# Altium integrated library TI Power Management PCMCIA and USB.IntLib: 328 symbols (part 10 of 14)
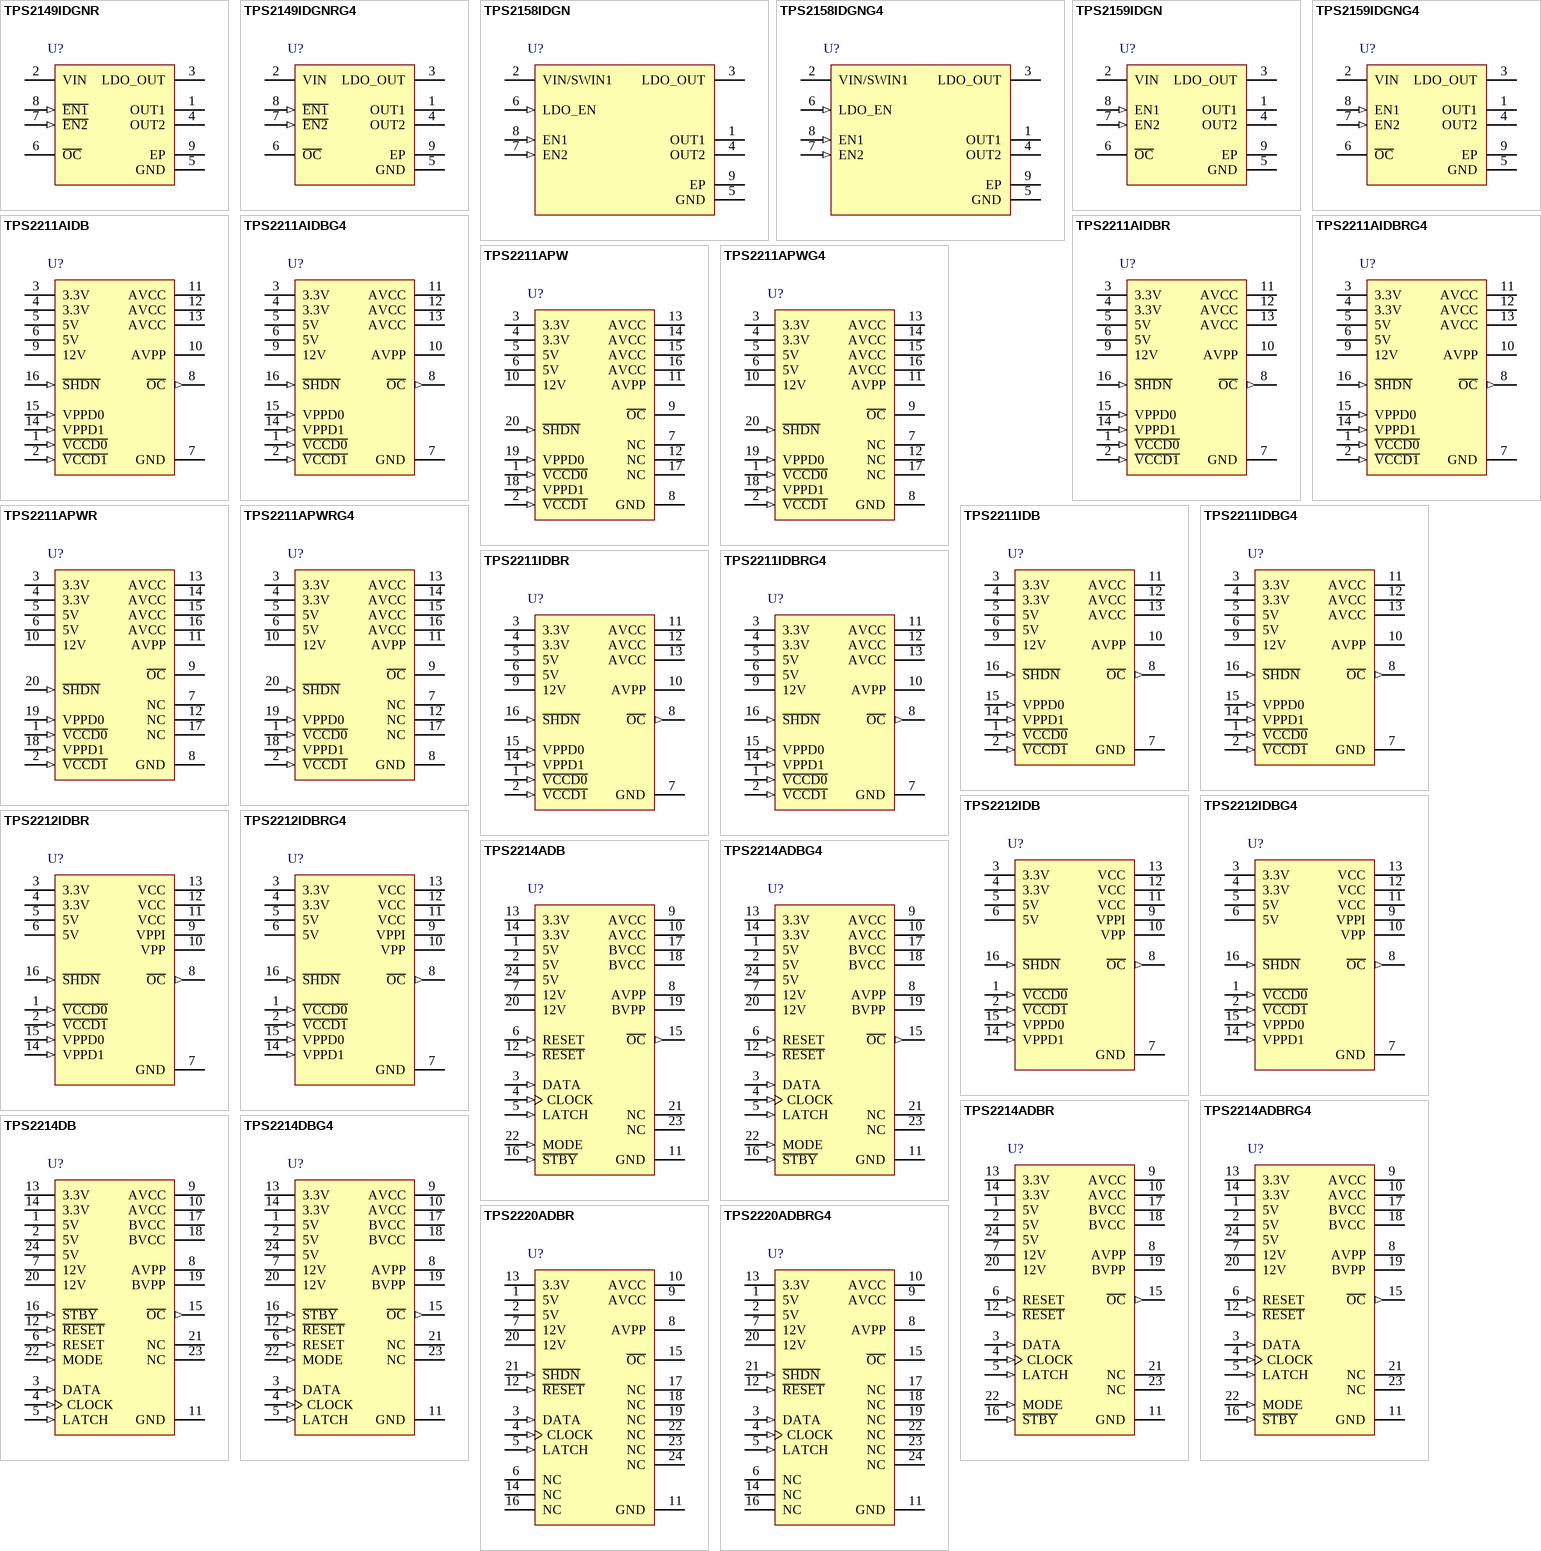
[diagram p19: symbols TPS2149IDGNR to TPS2220ADBRG4]

## TPS2211IDBRG4
designator U?
1 A Single-Slot PC Card Power Switch with Parallel Interface, -40 to 85 degC, 16-pin SSOP (DB), Green (RoHS & no Sb/Br); Manufacturer: Texas Instruments; PartNumber: TPS2211IDBRG4; 3V rDS(on)(Typ)(mOhm): 50; Adjustable Current Limit(Min)(A): 1; Curr/Temp Protection: TRUE; SubFamily: PCMCIA/Cardbus Switch Matrix; DatasheetVersion: SLVS156E; PackageVersion: revE, Dec-2001; PackageReference: DB16; PackageDescription: 16-Pin Plastic Small Outline Package, 6.2 x 5.3 mm Body, 0.65 mm Pitch; Supplier 1: Digi-Key; Supplier Part Number 1: TPS2211IDBRG4-ND; Supplier 2: Newark; Supplier Part Number 2: 63K6550; Supplier 3: Mouser; Supplier Part Number 3: 595-TPS2211IDBRG4; 5V rDS(on)(Typ)(mOhm): 50; Interface: Parallel; Over Current Reporting: TRUE; Ports: 1; Single: TRUE; Supports 12V: TRUE; Supports VPP: TRUE; Mounting Technology: Surface Mount; Code_JEDEC: MO-150; ComponentLink1Description: Datasheet; ComponentLink1URL: http://www.ti.com/general/docs/lit/getliterature.tsp?genericPartNumber=TPS2211&fileType=pdf
footprint DB16_N (SOP, 16-Leads, Body 6.2x5.3mm, Pitch 0.65mm, IPC Medium Density)
footprint DB16_L (SOP, 16-Leads, Body 6.2x5.3mm, Pitch 0.65mm, IPC High Density)
footprint DB16_M (SOP, 16-Leads, Body 6.2x5.3mm, Pitch 0.65mm, IPC Low Density)
pins: 1 ~{VCCD0} (in) "Logic input that controls voltage of AVCC", 2 ~{VCCD1} (in) "Logic input that controls voltage of AVCC", 3 3.3V (power) "3.3-V VCC input for card power and/or chip power if 5 V is not present", 4 3.3V (power) "3.3-V VCC input for card power and/or chip power if 5 V is not present", 5 5V (power) "5-V VCC input for card power and/or chip power", 6 5V (power) "5-V VCC input for card power and/or chip power", 7 GND (power) "Ground", 8 ~{OC} (out) "Logic-level overcurrent reporting output that goes low when an overcurrent conditions exists", 9 12V (power) "12-V Vpp input card power", 10 AVPP (power) "Switched output that delivers 0 V 3.3-V, 5-V, 12-V, or high impedance to card", 11 AVCC (power) "Switched output that delivers 0 V, 3.3-V, 5-V, or high impedance to card", 12 AVCC (power) "Switched output that delivers 0 V, 3.3-V, 5-V, or high impedance to card", 13 AVCC (power) "Switched output that delivers 0 V, 3.3-V, 5-V, or high impedance to card", 14 VPPD1 (in) "Logic input that controls voltage of AVPP", 15 VPPD0 (in) "Logic input that controls voltage of AVPP", 16 ~{SHDN} (in) "Logic input that shuts down the TPS2211 and sets all power outputs to high-impedance state"

## TPS2212IDB
designator U?
0.3 A Single-Slot PC Card Power Switch with Parallel Interface, -40 to 85 degC, 16-pin SSOP (DB), Green (RoHS & no Sb/Br); Manufacturer: Texas Instruments; PartNumber: TPS2212IDB; 3V rDS(on)(Typ)(mOhm): 160; Adjustable Current Limit(Min)(A): 0.3; Curr/Temp Protection: TRUE; Ports: 1; SubFamily: PCMCIA/Cardbus Switch Matrix; DatasheetVersion: SLVS193A; PackageVersion: revE, Dec-2001; PackageReference: DB16; PackageDescription: 16-Pin Plastic Small Outline Package, 6.2 x 5.3 mm Body, 0.65 mm Pitch; Supplier 1: Digi-Key; Supplier Part Number 1: 296-2247-5-ND; Supplier 2: Farnell; Supplier Part Number 2: 1755552; Supplier 3: Newark; Supplier Part Number 3: 50R6915; Supplier 4: Newark; Supplier Part Number 4: 96B9525; Supplier 5: Mouser; Supplier Part Number 5: 595-TPS2212IDB; 5V rDS(on)(Typ)(mOhm): 160; Interface: Parallel; Over Current Reporting: TRUE; Single: TRUE; Supports 12V: TRUE; Supports VPP: TRUE; Mounting Technology: Surface Mount; Code_JEDEC: MO-150; ComponentLink1Description: Datasheet; ComponentLink1URL: http://www.ti.com/general/docs/lit/getliterature.tsp?genericPartNumber=TPS2212&fileType=pdf
footprint DB16_N (SOP, 16-Leads, Body 6.2x5.3mm, Pitch 0.65mm, IPC Medium Density)
footprint DB16_L (SOP, 16-Leads, Body 6.2x5.3mm, Pitch 0.65mm, IPC High Density)
footprint DB16_M (SOP, 16-Leads, Body 6.2x5.3mm, Pitch 0.65mm, IPC Low Density)
pins: 1 ~{VCCD0} (in) "Logic input that controls voltage of VCC", 2 ~{VCCD1} (in) "Logic input that controls voltage of VCC", 3 3.3V (power) "3.3-V VCC input for card power and/or chip power if 5 V is not present", 4 3.3V (power) "3.3-V VCC input for card power and/or chip power if 5 V is not present", 5 5V (power) "5-V VCC input for card power and/or chip power", 6 5V (power) "5-V VCC input for card power and/or chip power", 7 GND (power) "Ground", 8 ~{OC} (out) "Logic-level overcurrent reporting output that goes low when an overcurrent conditions exists", 9 VPPI (power) "Main Vpp input, typically 12 V, allows 3.3 V-12 V", 10 VPP (power) "Switched output that delivers 0 V 3.3-V, 5-V, VPPI (12V), or high impedance to card", 11 VCC (power) "Switched output that delivers 0 V, 3.3-V, 5-V, or high impedance to card", 12 VCC (power) "Switched output that delivers 0 V, 3.3-V, 5-V, or high impedance to card", 13 VCC (power) "Switched output that delivers 0 V, 3.3-V, 5-V, or high impedance to card", 14 VPPD1 (in) "Logic input that controls voltage of VPP", 15 VPPD0 (in) "Logic input that controls voltage of VPP", 16 ~{SHDN} (in) "Logic input that shuts down the TPS2212 and sets all power outputs to high-impedance state"

## TPS2212IDBG4
designator U?
0.3 A Single-Slot PC Card Power Switch with Parallel Interface, -40 to 85 degC, 16-pin SSOP (DB), Green (RoHS & no Sb/Br); Manufacturer: Texas Instruments; PartNumber: TPS2212IDBG4; 3V rDS(on)(Typ)(mOhm): 160; Adjustable Current Limit(Min)(A): 0.3; Curr/Temp Protection: TRUE; Ports: 1; SubFamily: PCMCIA/Cardbus Switch Matrix; DatasheetVersion: SLVS193A; PackageVersion: revE, Dec-2001; PackageReference: DB16; PackageDescription: 16-Pin Plastic Small Outline Package, 6.2 x 5.3 mm Body, 0.65 mm Pitch; Supplier 1: Digi-Key; Supplier Part Number 1: TPS2212IDBG4-ND; Supplier 2: Newark; Supplier Part Number 2: 66K4507; Supplier 3: Mouser; Supplier Part Number 3: 595-TPS2212IDBG4; 5V rDS(on)(Typ)(mOhm): 160; Interface: Parallel; Over Current Reporting: TRUE; Single: TRUE; Supports 12V: TRUE; Supports VPP: TRUE; Mounting Technology: Surface Mount; Code_JEDEC: MO-150; ComponentLink1Description: Datasheet; ComponentLink1URL: http://www.ti.com/general/docs/lit/getliterature.tsp?genericPartNumber=TPS2212&fileType=pdf
footprint DB16_N (SOP, 16-Leads, Body 6.2x5.3mm, Pitch 0.65mm, IPC Medium Density)
footprint DB16_L (SOP, 16-Leads, Body 6.2x5.3mm, Pitch 0.65mm, IPC High Density)
footprint DB16_M (SOP, 16-Leads, Body 6.2x5.3mm, Pitch 0.65mm, IPC Low Density)
pins: 1 ~{VCCD0} (in) "Logic input that controls voltage of VCC", 2 ~{VCCD1} (in) "Logic input that controls voltage of VCC", 3 3.3V (power) "3.3-V VCC input for card power and/or chip power if 5 V is not present", 4 3.3V (power) "3.3-V VCC input for card power and/or chip power if 5 V is not present", 5 5V (power) "5-V VCC input for card power and/or chip power", 6 5V (power) "5-V VCC input for card power and/or chip power", 7 GND (power) "Ground", 8 ~{OC} (out) "Logic-level overcurrent reporting output that goes low when an overcurrent conditions exists", 9 VPPI (power) "Main Vpp input, typically 12 V, allows 3.3 V-12 V", 10 VPP (power) "Switched output that delivers 0 V 3.3-V, 5-V, VPPI (12V), or high impedance to card", 11 VCC (power) "Switched output that delivers 0 V, 3.3-V, 5-V, or high impedance to card", 12 VCC (power) "Switched output that delivers 0 V, 3.3-V, 5-V, or high impedance to card", 13 VCC (power) "Switched output that delivers 0 V, 3.3-V, 5-V, or high impedance to card", 14 VPPD1 (in) "Logic input that controls voltage of VPP", 15 VPPD0 (in) "Logic input that controls voltage of VPP", 16 ~{SHDN} (in) "Logic input that shuts down the TPS2212 and sets all power outputs to high-impedance state"

## TPS2212IDBR
designator U?
0.3 A Single-Slot PC Card Power Switch with Parallel Interface, -40 to 85 degC, 16-pin SSOP (DB), Green (RoHS & no Sb/Br); Manufacturer: Texas Instruments; PartNumber: TPS2212IDBR; 3V rDS(on)(Typ)(mOhm): 160; Adjustable Current Limit(Min)(A): 0.3; Curr/Temp Protection: TRUE; Ports: 1; SubFamily: PCMCIA/Cardbus Switch Matrix; DatasheetVersion: SLVS193A; PackageVersion: revE, Dec-2001; PackageReference: DB16; PackageDescription: 16-Pin Plastic Small Outline Package, 6.2 x 5.3 mm Body, 0.65 mm Pitch; Supplier 1: Digi-Key; Supplier Part Number 1: TPS2212IDBR-ND; Supplier 2: Newark; Supplier Part Number 2: 77C0129; Supplier 3: Mouser; Supplier Part Number 3: 595-TPS2212IDBR; 5V rDS(on)(Typ)(mOhm): 160; Interface: Parallel; Over Current Reporting: TRUE; Single: TRUE; Supports 12V: TRUE; Supports VPP: TRUE; Mounting Technology: Surface Mount; Code_JEDEC: MO-150; ComponentLink1Description: Datasheet; ComponentLink1URL: http://www.ti.com/general/docs/lit/getliterature.tsp?genericPartNumber=TPS2212&fileType=pdf
footprint DB16_N (SOP, 16-Leads, Body 6.2x5.3mm, Pitch 0.65mm, IPC Medium Density)
footprint DB16_L (SOP, 16-Leads, Body 6.2x5.3mm, Pitch 0.65mm, IPC High Density)
footprint DB16_M (SOP, 16-Leads, Body 6.2x5.3mm, Pitch 0.65mm, IPC Low Density)
pins: 1 ~{VCCD0} (in) "Logic input that controls voltage of VCC", 2 ~{VCCD1} (in) "Logic input that controls voltage of VCC", 3 3.3V (power) "3.3-V VCC input for card power and/or chip power if 5 V is not present", 4 3.3V (power) "3.3-V VCC input for card power and/or chip power if 5 V is not present", 5 5V (power) "5-V VCC input for card power and/or chip power", 6 5V (power) "5-V VCC input for card power and/or chip power", 7 GND (power) "Ground", 8 ~{OC} (out) "Logic-level overcurrent reporting output that goes low when an overcurrent conditions exists", 9 VPPI (power) "Main Vpp input, typically 12 V, allows 3.3 V-12 V", 10 VPP (power) "Switched output that delivers 0 V 3.3-V, 5-V, VPPI (12V), or high impedance to card", 11 VCC (power) "Switched output that delivers 0 V, 3.3-V, 5-V, or high impedance to card", 12 VCC (power) "Switched output that delivers 0 V, 3.3-V, 5-V, or high impedance to card", 13 VCC (power) "Switched output that delivers 0 V, 3.3-V, 5-V, or high impedance to card", 14 VPPD1 (in) "Logic input that controls voltage of VPP", 15 VPPD0 (in) "Logic input that controls voltage of VPP", 16 ~{SHDN} (in) "Logic input that shuts down the TPS2212 and sets all power outputs to high-impedance state"

## TPS2212IDBRG4
designator U?
0.3 A Single-Slot PC Card Power Switch with Parallel Interface, -40 to 85 degC, 16-pin SSOP (DB), Green (RoHS & no Sb/Br); Manufacturer: Texas Instruments; PartNumber: TPS2212IDBRG4; 3V rDS(on)(Typ)(mOhm): 160; Adjustable Current Limit(Min)(A): 0.3; Curr/Temp Protection: TRUE; Ports: 1; SubFamily: PCMCIA/Cardbus Switch Matrix; DatasheetVersion: SLVS193A; PackageVersion: revE, Dec-2001; PackageReference: DB16; PackageDescription: 16-Pin Plastic Small Outline Package, 6.2 x 5.3 mm Body, 0.65 mm Pitch; Supplier 1: Digi-Key; Supplier Part Number 1: TPS2212IDBRG4-ND; Supplier 2: Newark; Supplier Part Number 2: 67K8625; Supplier 3: Mouser; Supplier Part Number 3: 595-TPS2212IDBRG4; 5V rDS(on)(Typ)(mOhm): 160; Interface: Parallel; Over Current Reporting: TRUE; Single: TRUE; Supports 12V: TRUE; Supports VPP: TRUE; Mounting Technology: Surface Mount; Code_JEDEC: MO-150; ComponentLink1Description: Datasheet; ComponentLink1URL: http://www.ti.com/general/docs/lit/getliterature.tsp?genericPartNumber=TPS2212&fileType=pdf
footprint DB16_N (SOP, 16-Leads, Body 6.2x5.3mm, Pitch 0.65mm, IPC Medium Density)
footprint DB16_L (SOP, 16-Leads, Body 6.2x5.3mm, Pitch 0.65mm, IPC High Density)
footprint DB16_M (SOP, 16-Leads, Body 6.2x5.3mm, Pitch 0.65mm, IPC Low Density)
pins: 1 ~{VCCD0} (in) "Logic input that controls voltage of VCC", 2 ~{VCCD1} (in) "Logic input that controls voltage of VCC", 3 3.3V (power) "3.3-V VCC input for card power and/or chip power if 5 V is not present", 4 3.3V (power) "3.3-V VCC input for card power and/or chip power if 5 V is not present", 5 5V (power) "5-V VCC input for card power and/or chip power", 6 5V (power) "5-V VCC input for card power and/or chip power", 7 GND (power) "Ground", 8 ~{OC} (out) "Logic-level overcurrent reporting output that goes low when an overcurrent conditions exists", 9 VPPI (power) "Main Vpp input, typically 12 V, allows 3.3 V-12 V", 10 VPP (power) "Switched output that delivers 0 V 3.3-V, 5-V, VPPI (12V), or high impedance to card", 11 VCC (power) "Switched output that delivers 0 V, 3.3-V, 5-V, or high impedance to card", 12 VCC (power) "Switched output that delivers 0 V, 3.3-V, 5-V, or high impedance to card", 13 VCC (power) "Switched output that delivers 0 V, 3.3-V, 5-V, or high impedance to card", 14 VPPD1 (in) "Logic input that controls voltage of VPP", 15 VPPD0 (in) "Logic input that controls voltage of VPP", 16 ~{SHDN} (in) "Logic input that shuts down the TPS2212 and sets all power outputs to high-impedance state"

## TPS2214ADB
designator U?
1 A Dual-Slot PC Card Power Switch with Serial Interface, -40 to 70 degC, 24-pin SSOP (DB), Green (RoHS & no Sb/Br); Manufacturer: Texas Instruments; PartNumber: TPS2214ADB; 3V rDS(on)(Typ)(mOhm): 60; 5V rDS(on)(Typ)(mOhm): 140; Adjustable Current Limit(Min)(A): 1; Curr/Temp Protection: TRUE; Ports: 2; SubFamily: PCMCIA/Cardbus Switch Matrix; DatasheetVersion: SLVS267C; PackageVersion: revE, Dec-2001; PackageReference: DB24; PackageDescription: 24-Pin Plastic Small Outline Package, 8.2 x 5.3 mm Body, 0.65 mm Pitch; Supplier 1: Digi-Key; Supplier Part Number 1: 296-2248-5-ND; Supplier 2: Newark; Supplier Part Number 2: 77C0130; Supplier 3: Mouser; Supplier Part Number 3: 595-TPS2214ADB; Dual: TRUE; Interface: Serial; Over Current Reporting: TRUE; Supports 12V: TRUE; Supports VPP: TRUE; Mounting Technology: Surface Mount; Code_JEDEC: MO-150; ComponentLink1Description: Datasheet; ComponentLink1URL: http://www.ti.com/general/docs/lit/getliterature.tsp?genericPartNumber=TPS2214A&fileType=pdf
footprint DB24_N (SOP, 24-Leads, Body 8.2x5.3mm, Pitch 0.65mm, IPC Medium Density)
footprint DB24_L (SOP, 24-Leads, Body 8.2x5.3mm, Pitch 0.65mm, IPC High Density)
footprint DB24_M (SOP, 24-Leads, Body 8.2x5.3mm, Pitch 0.65mm, IPC Low Density)
pins: 1 5V (power) "5-V input for card power and/or chip power", 2 5V (power) "5-V input for card power and/or chip power", 3 DATA (in) "Logic-level serial data word", 4 CLOCK (in) "Logic-level clock for serial data word", 5 LATCH (in) "Logic-level latch for serial data word", 6 RESET (in) "Logic-level reset input active high. Do not connect if R\E\S\E\T\ pin is used. RESET is internally pulled low with a 150-k ohm pulldown resistor", 7 12V (power) "12-V Vpp input card power", 8 AVPP (power) "VPP output: 3.3-V, 5-V, 12-V, GND or high impedance to card", 9 AVCC (power) "VCC output: 3.3-V, 5-V, GND or high impedance to card", 10 AVCC (power) "VCC output: 3.3-V, 5-V, GND or high impedance to card", 11 GND (power) "Ground", 12 ~{RESET} (in) "Logic-level reset input active low. Do not connect if RESET pin is used. The pin is internally pulled high with a 150-k ohm pullup resistor", 13 3.3V (power) "3.3-V input for card power and/or chip power if 5 V is not present", 14 3.3V (power) "3.3-V input for card power and/or chip power if 5 V is not present", 15 ~{OC} (out) "Logic-level output that goes low when an overcurrent or overtemperature condition exists", 16 ~{STBY} (in) "Logic-level active low input sets the TPS2216 to standby mode and sets all current limits to 50 mA. The pin is internally pulled high with a 150-k ohm pullup resistor", 17 BVCC (power) "VCC output: 3.3-V, 5-V, GND or high impedance to card", 18 BVCC (power) "VCC output: 3.3-V, 5-V, GND or high impedance to card", 19 BVPP (power) "VPP output: 3.3-V, 5-V, 12-V, GND or high impedance to card", 20 12V (power) "12-V Vpp input card power", 21 NC "No internal connection", 22 MODE (in) "TPS2206 operation when floating or pulled low; must be pulled high externally for TPS2216A operation. MODE is internally pulled low with a 150-k ohm pulldown resistor", 23 NC "No internal connection", 24 5V (power) "5-V input for card power and/or chip power"

## TPS2214ADBG4
designator U?
1 A Dual-Slot PC Card Power Switch with Serial Interface, -40 to 70 degC, 24-pin SSOP (DB), Green (RoHS & no Sb/Br); Manufacturer: Texas Instruments; PartNumber: TPS2214ADBG4; 3V rDS(on)(Typ)(mOhm): 60; 5V rDS(on)(Typ)(mOhm): 140; Adjustable Current Limit(Min)(A): 1; Curr/Temp Protection: TRUE; Ports: 2; SubFamily: PCMCIA/Cardbus Switch Matrix; DatasheetVersion: SLVS267C; PackageVersion: revE, Dec-2001; PackageReference: DB24; PackageDescription: 24-Pin Plastic Small Outline Package, 8.2 x 5.3 mm Body, 0.65 mm Pitch; Supplier 1: Digi-Key; Supplier Part Number 1: TPS2214ADBG4-ND; Supplier 2: Newark; Supplier Part Number 2: 66K4508; Supplier 3: Mouser; Supplier Part Number 3: 595-TPS2214ADBG4; Dual: TRUE; Interface: Serial; Over Current Reporting: TRUE; Supports 12V: TRUE; Supports VPP: TRUE; Mounting Technology: Surface Mount; Code_JEDEC: MO-150; ComponentLink1Description: Datasheet; ComponentLink1URL: http://www.ti.com/general/docs/lit/getliterature.tsp?genericPartNumber=TPS2214A&fileType=pdf
footprint DB24_N (SOP, 24-Leads, Body 8.2x5.3mm, Pitch 0.65mm, IPC Medium Density)
footprint DB24_L (SOP, 24-Leads, Body 8.2x5.3mm, Pitch 0.65mm, IPC High Density)
footprint DB24_M (SOP, 24-Leads, Body 8.2x5.3mm, Pitch 0.65mm, IPC Low Density)
pins: 1 5V (power) "5-V input for card power and/or chip power", 2 5V (power) "5-V input for card power and/or chip power", 3 DATA (in) "Logic-level serial data word", 4 CLOCK (in) "Logic-level clock for serial data word", 5 LATCH (in) "Logic-level latch for serial data word", 6 RESET (in) "Logic-level reset input active high. Do not connect if R\E\S\E\T\ pin is used. RESET is internally pulled low with a 150-k ohm pulldown resistor", 7 12V (power) "12-V Vpp input card power", 8 AVPP (power) "VPP output: 3.3-V, 5-V, 12-V, GND or high impedance to card", 9 AVCC (power) "VCC output: 3.3-V, 5-V, GND or high impedance to card", 10 AVCC (power) "VCC output: 3.3-V, 5-V, GND or high impedance to card", 11 GND (power) "Ground", 12 ~{RESET} (in) "Logic-level reset input active low. Do not connect if RESET pin is used. The pin is internally pulled high with a 150-k ohm pullup resistor", 13 3.3V (power) "3.3-V input for card power and/or chip power if 5 V is not present", 14 3.3V (power) "3.3-V input for card power and/or chip power if 5 V is not present", 15 ~{OC} (out) "Logic-level output that goes low when an overcurrent or overtemperature condition exists", 16 ~{STBY} (in) "Logic-level active low input sets the TPS2216 to standby mode and sets all current limits to 50 mA. The pin is internally pulled high with a 150-k ohm pullup resistor", 17 BVCC (power) "VCC output: 3.3-V, 5-V, GND or high impedance to card", 18 BVCC (power) "VCC output: 3.3-V, 5-V, GND or high impedance to card", 19 BVPP (power) "VPP output: 3.3-V, 5-V, 12-V, GND or high impedance to card", 20 12V (power) "12-V Vpp input card power", 21 NC "No internal connection", 22 MODE (in) "TPS2206 operation when floating or pulled low; must be pulled high externally for TPS2216A operation. MODE is internally pulled low with a 150-k ohm pulldown resistor", 23 NC "No internal connection", 24 5V (power) "5-V input for card power and/or chip power"

## TPS2214ADBR
designator U?
1 A Dual-Slot PC Card Power Switch with Serial Interface, -40 to 70 degC, 24-pin SSOP (DB), Green (RoHS & no Sb/Br); Manufacturer: Texas Instruments; PartNumber: TPS2214ADBR; 3V rDS(on)(Typ)(mOhm): 60; 5V rDS(on)(Typ)(mOhm): 140; Adjustable Current Limit(Min)(A): 1; Curr/Temp Protection: TRUE; Ports: 2; SubFamily: PCMCIA/Cardbus Switch Matrix; DatasheetVersion: SLVS267C; PackageVersion: revE, Dec-2001; PackageReference: DB24; PackageDescription: 24-Pin Plastic Small Outline Package, 8.2 x 5.3 mm Body, 0.65 mm Pitch; Supplier 1: Digi-Key; Supplier Part Number 1: TPS2214ADBR-ND; Supplier 2: Newark; Supplier Part Number 2: 77C0131; Supplier 3: Mouser; Supplier Part Number 3: 595-TPS2214ADBR; Dual: TRUE; Interface: Serial; Over Current Reporting: TRUE; Supports 12V: TRUE; Supports VPP: TRUE; Mounting Technology: Surface Mount; Code_JEDEC: MO-150; ComponentLink1Description: Datasheet; ComponentLink1URL: http://www.ti.com/general/docs/lit/getliterature.tsp?genericPartNumber=TPS2214A&fileType=pdf
footprint DB24_N (SOP, 24-Leads, Body 8.2x5.3mm, Pitch 0.65mm, IPC Medium Density)
footprint DB24_L (SOP, 24-Leads, Body 8.2x5.3mm, Pitch 0.65mm, IPC High Density)
footprint DB24_M (SOP, 24-Leads, Body 8.2x5.3mm, Pitch 0.65mm, IPC Low Density)
pins: 1 5V (power) "5-V input for card power and/or chip power", 2 5V (power) "5-V input for card power and/or chip power", 3 DATA (in) "Logic-level serial data word", 4 CLOCK (in) "Logic-level clock for serial data word", 5 LATCH (in) "Logic-level latch for serial data word", 6 RESET (in) "Logic-level reset input active high. Do not connect if R\E\S\E\T\ pin is used. RESET is internally pulled low with a 150-k ohm pulldown resistor", 7 12V (power) "12-V Vpp input card power", 8 AVPP (power) "VPP output: 3.3-V, 5-V, 12-V, GND or high impedance to card", 9 AVCC (power) "VCC output: 3.3-V, 5-V, GND or high impedance to card", 10 AVCC (power) "VCC output: 3.3-V, 5-V, GND or high impedance to card", 11 GND (power) "Ground", 12 ~{RESET} (in) "Logic-level reset input active low. Do not connect if RESET pin is used. The pin is internally pulled high with a 150-k ohm pullup resistor", 13 3.3V (power) "3.3-V input for card power and/or chip power if 5 V is not present", 14 3.3V (power) "3.3-V input for card power and/or chip power if 5 V is not present", 15 ~{OC} (out) "Logic-level output that goes low when an overcurrent or overtemperature condition exists", 16 ~{STBY} (in) "Logic-level active low input sets the TPS2216 to standby mode and sets all current limits to 50 mA. The pin is internally pulled high with a 150-k ohm pullup resistor", 17 BVCC (power) "VCC output: 3.3-V, 5-V, GND or high impedance to card", 18 BVCC (power) "VCC output: 3.3-V, 5-V, GND or high impedance to card", 19 BVPP (power) "VPP output: 3.3-V, 5-V, 12-V, GND or high impedance to card", 20 12V (power) "12-V Vpp input card power", 21 NC "No internal connection", 22 MODE (in) "TPS2206 operation when floating or pulled low; must be pulled high externally for TPS2216A operation. MODE is internally pulled low with a 150-k ohm pulldown resistor", 23 NC "No internal connection", 24 5V (power) "5-V input for card power and/or chip power"

## TPS2214ADBRG4
designator U?
1 A Dual-Slot PC Card Power Switch with Serial Interface, -40 to 70 degC, 24-pin SSOP (DB), Green (RoHS & no Sb/Br); Manufacturer: Texas Instruments; PartNumber: TPS2214ADBRG4; 3V rDS(on)(Typ)(mOhm): 60; 5V rDS(on)(Typ)(mOhm): 140; Adjustable Current Limit(Min)(A): 1; Curr/Temp Protection: TRUE; Ports: 2; SubFamily: PCMCIA/Cardbus Switch Matrix; DatasheetVersion: SLVS267C; PackageVersion: revE, Dec-2001; PackageReference: DB24; PackageDescription: 24-Pin Plastic Small Outline Package, 8.2 x 5.3 mm Body, 0.65 mm Pitch; Supplier 1: Digi-Key; Supplier Part Number 1: TPS2214ADBRG4-ND; Supplier 2: Newark; Supplier Part Number 2: 58K6899; Supplier 3: Mouser; Supplier Part Number 3: 595-TPS2214ADBRG4; Dual: TRUE; Interface: Serial; Over Current Reporting: TRUE; Supports 12V: TRUE; Supports VPP: TRUE; Mounting Technology: Surface Mount; Code_JEDEC: MO-150; ComponentLink1Description: Datasheet; ComponentLink1URL: http://www.ti.com/general/docs/lit/getliterature.tsp?genericPartNumber=TPS2214A&fileType=pdf
footprint DB24_N (SOP, 24-Leads, Body 8.2x5.3mm, Pitch 0.65mm, IPC Medium Density)
footprint DB24_L (SOP, 24-Leads, Body 8.2x5.3mm, Pitch 0.65mm, IPC High Density)
footprint DB24_M (SOP, 24-Leads, Body 8.2x5.3mm, Pitch 0.65mm, IPC Low Density)
pins: 1 5V (power) "5-V input for card power and/or chip power", 2 5V (power) "5-V input for card power and/or chip power", 3 DATA (in) "Logic-level serial data word", 4 CLOCK (in) "Logic-level clock for serial data word", 5 LATCH (in) "Logic-level latch for serial data word", 6 RESET (in) "Logic-level reset input active high. Do not connect if R\E\S\E\T\ pin is used. RESET is internally pulled low with a 150-k ohm pulldown resistor", 7 12V (power) "12-V Vpp input card power", 8 AVPP (power) "VPP output: 3.3-V, 5-V, 12-V, GND or high impedance to card", 9 AVCC (power) "VCC output: 3.3-V, 5-V, GND or high impedance to card", 10 AVCC (power) "VCC output: 3.3-V, 5-V, GND or high impedance to card", 11 GND (power) "Ground", 12 ~{RESET} (in) "Logic-level reset input active low. Do not connect if RESET pin is used. The pin is internally pulled high with a 150-k ohm pullup resistor", 13 3.3V (power) "3.3-V input for card power and/or chip power if 5 V is not present", 14 3.3V (power) "3.3-V input for card power and/or chip power if 5 V is not present", 15 ~{OC} (out) "Logic-level output that goes low when an overcurrent or overtemperature condition exists", 16 ~{STBY} (in) "Logic-level active low input sets the TPS2216 to standby mode and sets all current limits to 50 mA. The pin is internally pulled high with a 150-k ohm pullup resistor", 17 BVCC (power) "VCC output: 3.3-V, 5-V, GND or high impedance to card", 18 BVCC (power) "VCC output: 3.3-V, 5-V, GND or high impedance to card", 19 BVPP (power) "VPP output: 3.3-V, 5-V, 12-V, GND or high impedance to card", 20 12V (power) "12-V Vpp input card power", 21 NC "No internal connection", 22 MODE (in) "TPS2206 operation when floating or pulled low; must be pulled high externally for TPS2216A operation. MODE is internally pulled low with a 150-k ohm pulldown resistor", 23 NC "No internal connection", 24 5V (power) "5-V input for card power and/or chip power"

## TPS2214DB
designator U?
1 A Dual-Slot PC Card Power Switch with Serial Interface, -40 to 85 degC, 24-pin SSOP (DB), Green (RoHS & no Sb/Br); Manufacturer: Texas Instruments; PartNumber: TPS2214DB; 3V rDS(on)(Typ)(mOhm): 60; Adjustable Current Limit(Min)(A): 1; Curr/Temp Protection: TRUE; Ports: 2; SubFamily: PCMCIA/Cardbus Switch Matrix; DatasheetVersion: SLVS206B; PackageVersion: revE, Dec-2001; PackageReference: DB24; PackageDescription: 24-Pin Plastic Small Outline Package, 8.2 x 5.3 mm Body, 0.65 mm Pitch; Supplier 1: Digi-Key; Supplier Part Number 1: 296-2249-5-ND; Supplier 2: Newark; Supplier Part Number 2: 77C0132; Supplier 3: Mouser; Supplier Part Number 3: 595-TPS2214DB; 5V rDS(on)(Typ)(mOhm): 60; Dual: TRUE; Interface: Serial; Over Current Reporting: TRUE; Supports 12V: TRUE; Supports VPP: TRUE; Mounting Technology: Surface Mount; Code_JEDEC: MO-150; ComponentLink1Description: Datasheet; ComponentLink1URL: http://www.ti.com/general/docs/lit/getliterature.tsp?genericPartNumber=TPS2214&fileType=pdf
footprint DB24_N (SOP, 24-Leads, Body 8.2x5.3mm, Pitch 0.65mm, IPC Medium Density)
footprint DB24_L (SOP, 24-Leads, Body 8.2x5.3mm, Pitch 0.65mm, IPC High Density)
footprint DB24_M (SOP, 24-Leads, Body 8.2x5.3mm, Pitch 0.65mm, IPC Low Density)
pins: 1 5V (power) "5-V input for card power and/or chip power", 2 5V (power) "5-V input for card power and/or chip power", 3 DATA (in) "Logic-level serial data word", 4 CLOCK (in) "Logic-level clock for serial data word", 5 LATCH (in) "Logic-level latch for serial data word", 6 RESET (in) "Logic-level reset input active high. Do not connect if RESET pin is used. RESET is internally pulled low with a 150-k ohm pulldown resistor.", 7 12V (power) "12-V Vpp input card power", 8 AVPP (power) "VPP output: 3.3-V, 5-V, 12-V, GND or high impedance to card", 9 AVCC (power) "VCC output: 3.3-V, 5-V, GND or high impedance to card", 10 AVCC (power) "VCC output: 3.3-V, 5-V, GND or high impedance to card", 11 GND (power) "Ground", 12 ~{RESET} (in) "Logic-level reset input active low. Do not connect if RESET pin is used. The pin is internally pulled high with a 150-k ohm pullup resistor.", 13 3.3V (power) "3.3-V input for card power and/or chip power if 5 V is not present", 14 3.3V (power) "3.3-V input for card power and/or chip power if 5 V is not present", 15 ~{OC} (out) "Logic-level output that goes low when an overcurrent or overtemperature condition exists.", 16 ~{STBY} (in) "Logic-level active low input sets the TPS2214 to standby mode and sets all current limits to 50 mA. The pin is internally pulled high with a 150-k ohm pullup resistor.", 17 BVCC (power) "VCC output: 3.3-V, 5-V, GND or high impedance to card", 18 BVCC (power) "VCC output: 3.3-V, 5-V, GND or high impedance to card", 19 BVPP (power) "VPP output: 3.3-V, 5-V, 12-V, GND or high impedance to card", 20 12V (power) "12-V Vpp input card power", 21 NC "No internal connection", 22 MODE (in) "TPS2206 operation when floating or pulled low; must be pulled high externally for TPS2214 operation. MODE is internally pulled low with a 150-k ohm pulldown resistor.", 23 NC "No internal connection", 24 5V (power) "5-V input for card power and/or chip power"

## TPS2214DBG4
designator U?
1 A Dual-Slot PC Card Power Switch with Serial Interface, -40 to 85 degC, 24-pin SSOP (DB), Green (RoHS & no Sb/Br); Manufacturer: Texas Instruments; PartNumber: TPS2214DBG4; 3V rDS(on)(Typ)(mOhm): 60; Adjustable Current Limit(Min)(A): 1; Curr/Temp Protection: TRUE; Ports: 2; SubFamily: PCMCIA/Cardbus Switch Matrix; DatasheetVersion: SLVS206B; PackageVersion: revE, Dec-2001; PackageReference: DB24; PackageDescription: 24-Pin Plastic Small Outline Package, 8.2 x 5.3 mm Body, 0.65 mm Pitch; Supplier 1: Digi-Key; Supplier Part Number 1: TPS2214DBG4-ND; Supplier 2: Newark; Supplier Part Number 2: 54K1574; Supplier 3: Mouser; Supplier Part Number 3: 595-TPS2214DBG4; 5V rDS(on)(Typ)(mOhm): 60; Dual: TRUE; Interface: Serial; Over Current Reporting: TRUE; Supports 12V: TRUE; Supports VPP: TRUE; Mounting Technology: Surface Mount; Code_JEDEC: MO-150; ComponentLink1Description: Datasheet; ComponentLink1URL: http://www.ti.com/general/docs/lit/getliterature.tsp?genericPartNumber=TPS2214&fileType=pdf
footprint DB24_N (SOP, 24-Leads, Body 8.2x5.3mm, Pitch 0.65mm, IPC Medium Density)
footprint DB24_L (SOP, 24-Leads, Body 8.2x5.3mm, Pitch 0.65mm, IPC High Density)
footprint DB24_M (SOP, 24-Leads, Body 8.2x5.3mm, Pitch 0.65mm, IPC Low Density)
pins: 1 5V (power) "5-V input for card power and/or chip power", 2 5V (power) "5-V input for card power and/or chip power", 3 DATA (in) "Logic-level serial data word", 4 CLOCK (in) "Logic-level clock for serial data word", 5 LATCH (in) "Logic-level latch for serial data word", 6 RESET (in) "Logic-level reset input active high. Do not connect if RESET pin is used. RESET is internally pulled low with a 150-k ohm pulldown resistor.", 7 12V (power) "12-V Vpp input card power", 8 AVPP (power) "VPP output: 3.3-V, 5-V, 12-V, GND or high impedance to card", 9 AVCC (power) "VCC output: 3.3-V, 5-V, GND or high impedance to card", 10 AVCC (power) "VCC output: 3.3-V, 5-V, GND or high impedance to card", 11 GND (power) "Ground", 12 ~{RESET} (in) "Logic-level reset input active low. Do not connect if RESET pin is used. The pin is internally pulled high with a 150-k ohm pullup resistor.", 13 3.3V (power) "3.3-V input for card power and/or chip power if 5 V is not present", 14 3.3V (power) "3.3-V input for card power and/or chip power if 5 V is not present", 15 ~{OC} (out) "Logic-level output that goes low when an overcurrent or overtemperature condition exists.", 16 ~{STBY} (in) "Logic-level active low input sets the TPS2214 to standby mode and sets all current limits to 50 mA. The pin is internally pulled high with a 150-k ohm pullup resistor.", 17 BVCC (power) "VCC output: 3.3-V, 5-V, GND or high impedance to card", 18 BVCC (power) "VCC output: 3.3-V, 5-V, GND or high impedance to card", 19 BVPP (power) "VPP output: 3.3-V, 5-V, 12-V, GND or high impedance to card", 20 12V (power) "12-V Vpp input card power", 21 NC "No internal connection", 22 MODE (in) "TPS2206 operation when floating or pulled low; must be pulled high externally for TPS2214 operation. MODE is internally pulled low with a 150-k ohm pulldown resistor.", 23 NC "No internal connection", 24 5V (power) "5-V input for card power and/or chip power"

## TPS2220ADBR
designator U?
1 A Single-Slot PC Card Power Switch with Serial Interface, -40 to 85 degC, 24-pin SSOP (DB), Green (RoHS & no Sb/Br); Manufacturer: Texas Instruments; PartNumber: TPS2220ADBR; 3V rDS(on)(Typ)(mOhm): 85; 5V rDS(on)(Typ)(mOhm): 95; Adjustable Current Limit(Min)(A): 1; Curr/Temp Protection: TRUE; SubFamily: PCMCIA/Cardbus Switch Matrix; DatasheetVersion: SLVS428E; PackageVersion: revE, Dec-2001; PackageReference: DB24; PackageDescription: 24-Pin Plastic Small Outline Package, 8.2 x 5.3 mm Body, 0.65 mm Pitch; Supplier 1: Digi-Key; Supplier Part Number 1: TPS2220ADBR-ND; Supplier 2: Newark; Supplier Part Number 2: 73H4648; Supplier 3: Mouser; Supplier Part Number 3: 595-TPS2220ADBR; Interface: Serial; Over Current Reporting: TRUE; Ports: 1; Single: TRUE; Supports 12V: TRUE; Supports VPP: TRUE; VPP Good Reporting: TRUE; Mounting Technology: Surface Mount; Code_JEDEC: MO-150; ComponentLink1Description: Datasheet; ComponentLink1URL: http://www.ti.com/general/docs/lit/getliterature.tsp?genericPartNumber=TPS2220A&fileType=pdf
footprint DB24_N (SOP, 24-Leads, Body 8.2x5.3mm, Pitch 0.65mm, IPC Medium Density)
footprint DB24_L (SOP, 24-Leads, Body 8.2x5.3mm, Pitch 0.65mm, IPC High Density)
footprint DB24_M (SOP, 24-Leads, Body 8.2x5.3mm, Pitch 0.65mm, IPC Low Density)
pins: 1 5V (power) "5-V input for card power", 2 5V (power) "5-V input for card power", 3 DATA (in) "Logic-level serial data word", 4 CLOCK (in) "Logic-level clock for serial data word", 5 LATCH (in) "Logic-level latch for serial data word, internal pulldown", 6 NC "No internal connection", 7 12V (power) "12-V input for card power (xVPP). The two 12-V pins must be externally connected.", 8 AVPP (power) "Switched output that delivers 3.3 V, 5 V, 12 V, ground or high impedance to card", 9 AVCC (power) "Switched output that delivers 3.3 V, 5 V, ground or high impedance to card", 10 AVCC (power) "Switched output that delivers 3.3 V, 5 V, ground or high impedance to card", 11 GND (power) "Ground", 12 ~{RESET} (in) "Logic-level RESET input active low. Asynchronous active-low command, internal pullup", 13 3.3V (power) "3.3-V input for card power and chip power", 14 NC "No internal connection", 15 ~{OC} (oc) "Open-drain overcurrent reporting output that goes low when an overcurrent condition exists. An external pullup is required.", 16 NC "No internal connection", 17 NC "No internal connection", 18 NC "No internal connection", 19 NC "No internal connection", 20 12V (power) "12-V input for card power (xVPP). The two 12-V pins must be externally connected.", 21 ~{SHDN} (in) "Hi-Z (open) all switches. Identical function to serial D8. Asynchronous active-low command, internal pullup", 22 NC "No internal connection", 23 NC "No internal connection", 24 NC "No internal connection"

## TPS2220ADBRG4
designator U?
1 A Single-Slot PC Card Power Switch with Serial Interface, -40 to 85 degC, 24-pin SSOP (DB), Green (RoHS & no Sb/Br); Manufacturer: Texas Instruments; PartNumber: TPS2220ADBRG4; 3V rDS(on)(Typ)(mOhm): 85; 5V rDS(on)(Typ)(mOhm): 95; Adjustable Current Limit(Min)(A): 1; Curr/Temp Protection: TRUE; SubFamily: PCMCIA/Cardbus Switch Matrix; DatasheetVersion: SLVS428E; PackageVersion: revE, Dec-2001; PackageReference: DB24; PackageDescription: 24-Pin Plastic Small Outline Package, 8.2 x 5.3 mm Body, 0.65 mm Pitch; Supplier 1: Digi-Key; Supplier Part Number 1: TPS2220ADBRG4-ND; Supplier 2: Newark; Supplier Part Number 2: 33K7572; Supplier 3: Mouser; Supplier Part Number 3: 595-TPS2220ADBRG4; Interface: Serial; Over Current Reporting: TRUE; Ports: 1; Single: TRUE; Supports 12V: TRUE; Supports VPP: TRUE; VPP Good Reporting: TRUE; Mounting Technology: Surface Mount; Code_JEDEC: MO-150; ComponentLink1Description: Datasheet; ComponentLink1URL: http://www.ti.com/general/docs/lit/getliterature.tsp?genericPartNumber=TPS2220A&fileType=pdf
footprint DB24_N (SOP, 24-Leads, Body 8.2x5.3mm, Pitch 0.65mm, IPC Medium Density)
footprint DB24_L (SOP, 24-Leads, Body 8.2x5.3mm, Pitch 0.65mm, IPC High Density)
footprint DB24_M (SOP, 24-Leads, Body 8.2x5.3mm, Pitch 0.65mm, IPC Low Density)
pins: 1 5V (power) "5-V input for card power", 2 5V (power) "5-V input for card power", 3 DATA (in) "Logic-level serial data word", 4 CLOCK (in) "Logic-level clock for serial data word", 5 LATCH (in) "Logic-level latch for serial data word, internal pulldown", 6 NC "No internal connection", 7 12V (power) "12-V input for card power (xVPP). The two 12-V pins must be externally connected.", 8 AVPP (power) "Switched output that delivers 3.3 V, 5 V, 12 V, ground or high impedance to card", 9 AVCC (power) "Switched output that delivers 3.3 V, 5 V, ground or high impedance to card", 10 AVCC (power) "Switched output that delivers 3.3 V, 5 V, ground or high impedance to card", 11 GND (power) "Ground", 12 ~{RESET} (in) "Logic-level RESET input active low. Asynchronous active-low command, internal pullup", 13 3.3V (power) "3.3-V input for card power and chip power", 14 NC "No internal connection", 15 ~{OC} (oc) "Open-drain overcurrent reporting output that goes low when an overcurrent condition exists. An external pullup is required.", 16 NC "No internal connection", 17 NC "No internal connection", 18 NC "No internal connection", 19 NC "No internal connection", 20 12V (power) "12-V input for card power (xVPP). The two 12-V pins must be externally connected.", 21 ~{SHDN} (in) "Hi-Z (open) all switches. Identical function to serial D8. Asynchronous active-low command, internal pullup", 22 NC "No internal connection", 23 NC "No internal connection", 24 NC "No internal connection"

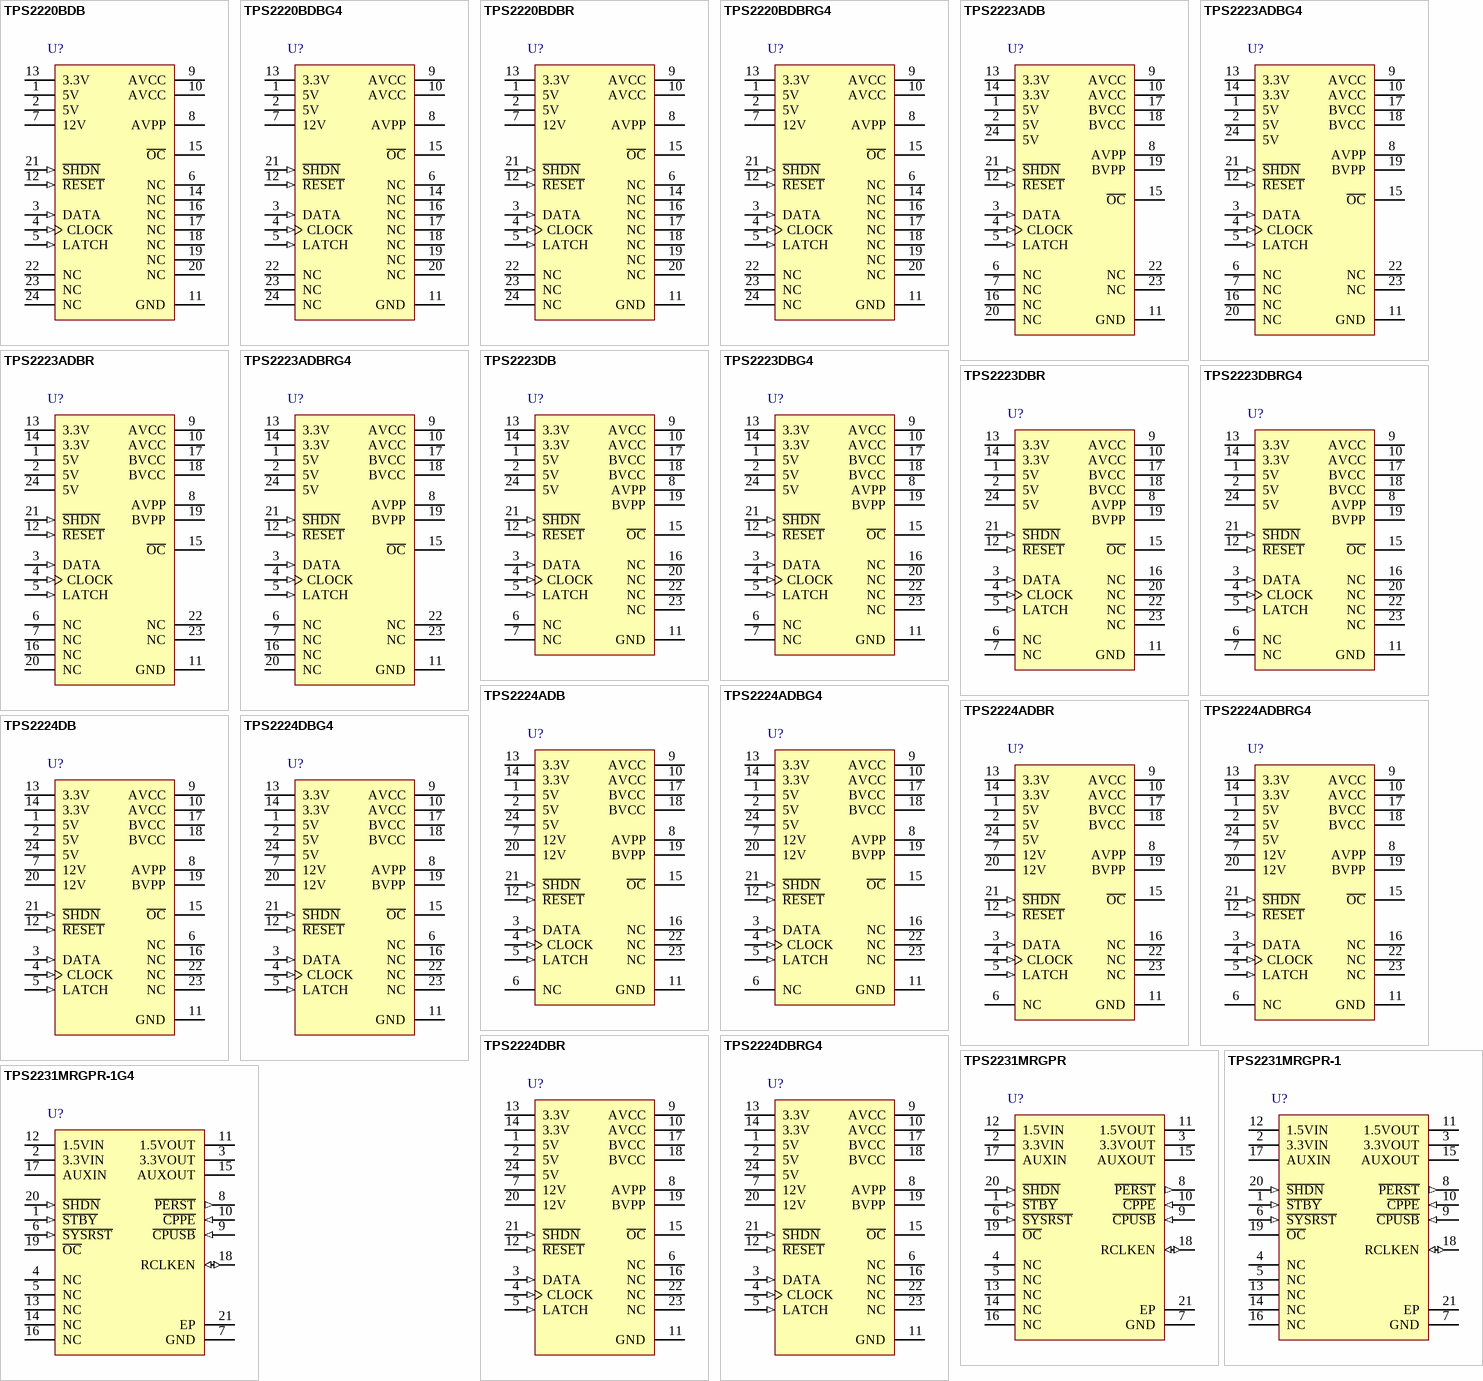
[diagram p8: symbols TPS2220BDB to TPS2231MRGPR-1G4]

## TPS2220BDB
designator U?
Single PC Card, Serial Interface, Power Switch, 3.3 to 12 V, -40 to 85 degC, 24-pin SSOP (DB), Green (RoHS & no Sb/Br); Manufacturer: Texas Instruments; PartNumber: TPS2220BDB; 3V rDS(on)(Typ)(mOhm): 85; 5V rDS(on)(Typ)(mOhm): 95; Adjustable Current Limit(Min)(A): 1; Curr/Temp Protection: TRUE; SubFamily: PCMCIA/Cardbus Switch Matrix; DatasheetVersion: SLVS554; PackageVersion: revE, Dec-2001; PackageReference: DB24; PackageDescription: 24-Pin Plastic Small Outline Package, 8.2 x 5.3 mm Body, 0.65 mm Pitch; Supplier 1: Digi-Key; Supplier Part Number 1: 296-17773-ND; Supplier 2: Newark; Supplier Part Number 2: 08K4930; Supplier 3: Mouser; Supplier Part Number 3: 595-TPS2220BDB; Interface: Serial; Over Current Reporting: TRUE; Ports: 1; Single Channel: TRUE; Supports 12V: TRUE; Supports VPP: TRUE; Mounting Technology: Surface Mount; Code_JEDEC: MO-150; ComponentLink1Description: Datasheet; ComponentLink1URL: http://www.ti.com/general/docs/lit/getliterature.tsp?genericPartNumber=TPS2220B&fileType=pdf
footprint DB24_N (SOP, 24-Leads, Body 8.2x5.3mm, Pitch 0.65mm, IPC Medium Density)
footprint DB24_L (SOP, 24-Leads, Body 8.2x5.3mm, Pitch 0.65mm, IPC High Density)
footprint DB24_M (SOP, 24-Leads, Body 8.2x5.3mm, Pitch 0.65mm, IPC Low Density)
pins: 1 5V (power) "5-V input for card power", 2 5V (power) "5-V input for card power", 3 DATA (in) "Logic-level serial data word", 4 CLOCK (in) "Logic-level clock for serial data word", 5 LATCH (in) "Logic-level latch for serial data word, internal pulldown", 6 NC "No internal connection", 7 12V (power) "12-V input for card power (AVPP).", 8 AVPP (power) "Switched output that delivers 3.3 V, 5 V, 12 V, ground or high impedance to card", 9 AVCC (power) "Switched output that delivers 3.3 V, 5 V, ground or high impedance to card", 10 AVCC (power) "Switched output that delivers 3.3 V, 5 V, ground or high impedance to card", 11 GND (power) "Ground", 12 ~{RESET} (in) "Logic-level RESET input active low. Asynchronous active-low command, internal pullup", 13 3.3V (power) "3.3-V input for card power and chip power", 14 NC "No internal connection", 15 ~{OC} (oc) "Open-drain overcurrent reporting output that goes low when an overcurrent condition exists. An external pullup is required.", 16 NC "No internal connection", 17 NC "No internal connection", 18 NC "No internal connection", 19 NC "No internal connection", 20 NC "No internal connection", 21 ~{SHDN} (in) "Hi-Z (open) all switches. Identical function to serial D8. Asynchronous active-low command, internal pullup", 22 NC "No internal connection", 23 NC "No internal connection", 24 NC "No internal connection"

## TPS2220BDBG4
designator U?
Single PC Card, Serial Interface, Power Switch, -40 to 85 degC, 24-pin SSOP (DB), Green (RoHS & no Sb/Br); Manufacturer: Texas Instruments; PartNumber: TPS2220BDBG4; 3V rDS(on)(Typ)(mOhm): 85; 5V rDS(on)(Typ)(mOhm): 95; Adjustable Current Limit(Min)(A): 1; Curr/Temp Protection: TRUE; SubFamily: PCMCIA/Cardbus Switch Matrix; DatasheetVersion: SLVS554; PackageVersion: revE, Dec-2001; PackageReference: DB24; PackageDescription: 24-Pin Plastic Small Outline Package, 8.2 x 5.3 mm Body, 0.65 mm Pitch; Supplier 1: Digi-Key; Supplier Part Number 1: TPS2220BDBG4-ND; Supplier 2: Newark; Supplier Part Number 2: 28K5715; Supplier 3: Mouser; Supplier Part Number 3: 595-TPS2220BDBG4; Interface: Serial; Over Current Reporting: TRUE; Ports: 1; Single Channel: TRUE; Supports 12V: TRUE; Supports VPP: TRUE; Mounting Technology: Surface Mount; Code_JEDEC: MO-150; ComponentLink1Description: Datasheet; ComponentLink1URL: http://www.ti.com/general/docs/lit/getliterature.tsp?genericPartNumber=TPS2220B&fileType=pdf
footprint DB24_N (SOP, 24-Leads, Body 8.2x5.3mm, Pitch 0.65mm, IPC Medium Density)
footprint DB24_L (SOP, 24-Leads, Body 8.2x5.3mm, Pitch 0.65mm, IPC High Density)
footprint DB24_M (SOP, 24-Leads, Body 8.2x5.3mm, Pitch 0.65mm, IPC Low Density)
pins: 1 5V (power) "5-V input for card power", 2 5V (power) "5-V input for card power", 3 DATA (in) "Logic-level serial data word", 4 CLOCK (in) "Logic-level clock for serial data word", 5 LATCH (in) "Logic-level latch for serial data word, internal pulldown", 6 NC "No internal connection", 7 12V (power) "12-V input for card power (AVPP).", 8 AVPP (power) "Switched output that delivers 3.3 V, 5 V, 12 V, ground or high impedance to card", 9 AVCC (power) "Switched output that delivers 3.3 V, 5 V, ground or high impedance to card", 10 AVCC (power) "Switched output that delivers 3.3 V, 5 V, ground or high impedance to card", 11 GND (power) "Ground", 12 ~{RESET} (in) "Logic-level RESET input active low. Asynchronous active-low command, internal pullup", 13 3.3V (power) "3.3-V input for card power and chip power", 14 NC "No internal connection", 15 ~{OC} (oc) "Open-drain overcurrent reporting output that goes low when an overcurrent condition exists. An external pullup is required.", 16 NC "No internal connection", 17 NC "No internal connection", 18 NC "No internal connection", 19 NC "No internal connection", 20 NC "No internal connection", 21 ~{SHDN} (in) "Hi-Z (open) all switches. Identical function to serial D8. Asynchronous active-low command, internal pullup", 22 NC "No internal connection", 23 NC "No internal connection", 24 NC "No internal connection"

## TPS2220BDBR
designator U?
Single PC Card, Serial Interface, Power Switch, -40 to 85 degC, 24-pin SSOP (DB), Green (RoHS & no Sb/Br); Manufacturer: Texas Instruments; PartNumber: TPS2220BDBR; 3V rDS(on)(Typ)(mOhm): 85; 5V rDS(on)(Typ)(mOhm): 95; Adjustable Current Limit(Min)(A): 1; Curr/Temp Protection: TRUE; SubFamily: PCMCIA/Cardbus Switch Matrix; DatasheetVersion: SLVS554; PackageVersion: revE, Dec-2001; PackageReference: DB24; PackageDescription: 24-Pin Plastic Small Outline Package, 8.2 x 5.3 mm Body, 0.65 mm Pitch; Supplier 1: Digi-Key; Supplier Part Number 1: TPS2220BDBR-ND; Supplier 2: Newark; Supplier Part Number 2: 08K4931; Supplier 3: Mouser; Supplier Part Number 3: 595-TPS2220BDBR; Interface: Serial; Over Current Reporting: TRUE; Ports: 1; Single Channel: TRUE; Supports 12V: TRUE; Supports VPP: TRUE; Mounting Technology: Surface Mount; Code_JEDEC: MO-150; ComponentLink1Description: Datasheet; ComponentLink1URL: http://www.ti.com/general/docs/lit/getliterature.tsp?genericPartNumber=TPS2220B&fileType=pdf
footprint DB24_N (SOP, 24-Leads, Body 8.2x5.3mm, Pitch 0.65mm, IPC Medium Density)
footprint DB24_L (SOP, 24-Leads, Body 8.2x5.3mm, Pitch 0.65mm, IPC High Density)
footprint DB24_M (SOP, 24-Leads, Body 8.2x5.3mm, Pitch 0.65mm, IPC Low Density)
pins: 1 5V (power) "5-V input for card power", 2 5V (power) "5-V input for card power", 3 DATA (in) "Logic-level serial data word", 4 CLOCK (in) "Logic-level clock for serial data word", 5 LATCH (in) "Logic-level latch for serial data word, internal pulldown", 6 NC "No internal connection", 7 12V (power) "12-V input for card power (AVPP).", 8 AVPP (power) "Switched output that delivers 3.3 V, 5 V, 12 V, ground or high impedance to card", 9 AVCC (power) "Switched output that delivers 3.3 V, 5 V, ground or high impedance to card", 10 AVCC (power) "Switched output that delivers 3.3 V, 5 V, ground or high impedance to card", 11 GND (power) "Ground", 12 ~{RESET} (in) "Logic-level RESET input active low. Asynchronous active-low command, internal pullup", 13 3.3V (power) "3.3-V input for card power and chip power", 14 NC "No internal connection", 15 ~{OC} (oc) "Open-drain overcurrent reporting output that goes low when an overcurrent condition exists. An external pullup is required.", 16 NC "No internal connection", 17 NC "No internal connection", 18 NC "No internal connection", 19 NC "No internal connection", 20 NC "No internal connection", 21 ~{SHDN} (in) "Hi-Z (open) all switches. Identical function to serial D8. Asynchronous active-low command, internal pullup", 22 NC "No internal connection", 23 NC "No internal connection", 24 NC "No internal connection"

## TPS2220BDBRG4
designator U?
Single PC Card, Serial Interface, Power Switch, -40 to 85 degC, 24-pin SSOP (DB), Green (RoHS & no Sb/Br); Manufacturer: Texas Instruments; PartNumber: TPS2220BDBRG4; 3V rDS(on)(Typ)(mOhm): 85; 5V rDS(on)(Typ)(mOhm): 95; Adjustable Current Limit(Min)(A): 1; Curr/Temp Protection: TRUE; SubFamily: PCMCIA/Cardbus Switch Matrix; DatasheetVersion: SLVS554; PackageVersion: revE, Dec-2001; PackageReference: DB24; PackageDescription: 24-Pin Plastic Small Outline Package, 8.2 x 5.3 mm Body, 0.65 mm Pitch; Supplier 1: Digi-Key; Supplier Part Number 1: TPS2220BDBRG4-ND; Supplier 2: Newark; Supplier Part Number 2: 28K5716; Supplier 3: Mouser; Supplier Part Number 3: 595-TPS2220BDBRG4; Interface: Serial; Over Current Reporting: TRUE; Ports: 1; Single Channel: TRUE; Supports 12V: TRUE; Supports VPP: TRUE; Mounting Technology: Surface Mount; Code_JEDEC: MO-150; ComponentLink1Description: Datasheet; ComponentLink1URL: http://www.ti.com/general/docs/lit/getliterature.tsp?genericPartNumber=TPS2220B&fileType=pdf
footprint DB24_N (SOP, 24-Leads, Body 8.2x5.3mm, Pitch 0.65mm, IPC Medium Density)
footprint DB24_L (SOP, 24-Leads, Body 8.2x5.3mm, Pitch 0.65mm, IPC High Density)
footprint DB24_M (SOP, 24-Leads, Body 8.2x5.3mm, Pitch 0.65mm, IPC Low Density)
pins: 1 5V (power) "5-V input for card power", 2 5V (power) "5-V input for card power", 3 DATA (in) "Logic-level serial data word", 4 CLOCK (in) "Logic-level clock for serial data word", 5 LATCH (in) "Logic-level latch for serial data word, internal pulldown", 6 NC "No internal connection", 7 12V (power) "12-V input for card power (AVPP).", 8 AVPP (power) "Switched output that delivers 3.3 V, 5 V, 12 V, ground or high impedance to card", 9 AVCC (power) "Switched output that delivers 3.3 V, 5 V, ground or high impedance to card", 10 AVCC (power) "Switched output that delivers 3.3 V, 5 V, ground or high impedance to card", 11 GND (power) "Ground", 12 ~{RESET} (in) "Logic-level RESET input active low. Asynchronous active-low command, internal pullup", 13 3.3V (power) "3.3-V input for card power and chip power", 14 NC "No internal connection", 15 ~{OC} (oc) "Open-drain overcurrent reporting output that goes low when an overcurrent condition exists. An external pullup is required.", 16 NC "No internal connection", 17 NC "No internal connection", 18 NC "No internal connection", 19 NC "No internal connection", 20 NC "No internal connection", 21 ~{SHDN} (in) "Hi-Z (open) all switches. Identical function to serial D8. Asynchronous active-low command, internal pullup", 22 NC "No internal connection", 23 NC "No internal connection", 24 NC "No internal connection"